# Altium footprint library 2019-05-27_23-32-10.PcbLib: 3 footprints
Each footprint in its own frame and in the unit in brackets; x right, y up, seen from the top. Pads: shape width x height; smd on the part's side, far side on the other; paste and mask are expansions set on the pad; w line width, h text height; cw(c..) or ccw(c..) is an arc to the next point about the centre after c.
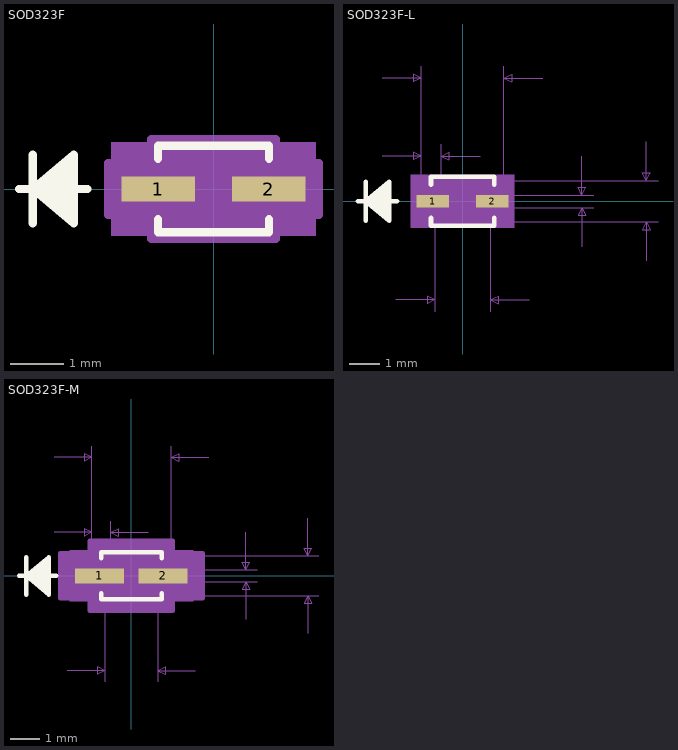
[diagram p0: the footprints below, top view; thin cyan lines are the x and y axes]

## SOD323F [mil]
pads (2):
  rect 53.5x18 smd paste+0 mask+0: 1(-40.25,0) 2(40.25,0)
Top Overlay:
  lines w6: -142,0 -92,0 ; -132,-25 -132,25 ; -102,-20 -132,0 ; -102,-15 -132,0 ; -102,-10 -132,0 ; -102,-5 -132,0 ; -102,5 -132,0 ; -102,10 -132,0 ; -102,15 -132,0 ; -102,20 -132,0 ; -40.5,-22.1 -40.5,-31.5 40.5,-31.5 40.5,-22.1 ; -40.5,22.1 -40.5,31.5 40.5,31.5 40.5,22.1 ; -132,0 -102,25 -102,-25 -132,0
Mechanical 5:
  region: 74.5,-34 -74.5,-34 -74.5,34 74.5,34
Mechanical 13:
  lines w1: -142,0 -92,0 ; -132,-25 -132,25 ; -102,-20 -132,0 ; -102,-15 -132,0 ; -102,-10 -132,0 ; -102,-5 -132,0 ; -102,5 -132,0 ; -102,10 -132,0 ; -102,15 -132,0 ; -102,20 -132,0 ; -35.5,-13.25 -22.25,-26.5 ; -35.5,13.25 -22.25,26.5 ; -132,0 -102,25 -102,-25 -132,0 ; -53,-8 -53,8 -35.5,8 -35.5,-8 -53,-8 ; -35.5,-26.5 35.5,-26.5 35.5,26.5 -35.5,26.5 -35.5,-26.5 ; 35.5,-8 35.5,8 53,8 53,-8 35.5,-8
Mechanical 15:
  region: -45.5,-19 -77,-19 -77,19 -45.5,19 -45.5,36.5 45.5,36.5 45.5,19 77,19 77,-19 45.5,-19 45.5,-36.5 -45.5,-36.5
  lines w6: -77,-19 -77,19 -45.5,19 -45.5,36.5 45.5,36.5 45.5,19 77,19 77,-19 45.5,-19 45.5,-36.5 -45.5,-36.5 -45.5,-19 -77,-19
3D body "SOD323F.step": height 43.11, standoff 0, extent -53,-26.5 52.99,26.49
3D body: height 10, standoff 0, extent 0,0 10,10

## SOD323F-L [mil]
pads (2):
  rect 41.5x16 smd paste+0 mask+0: 1(-38.25,0) 2(38.25,0)
Top Overlay:
  lines w6: -134,0 -84,0 ; -124,-25 -124,25 ; -94,-20 -124,0 ; -94,-15 -124,0 ; -94,-10 -124,0 ; -94,-5 -124,0 ; -94,5 -124,0 ; -94,10 -124,0 ; -94,15 -124,0 ; -94,20 -124,0 ; -40.5,-21.1 -40.5,-31.5 40.5,-31.5 40.5,-21.1 ; -40.5,21.1 -40.5,31.5 40.5,31.5 40.5,21.1 ; -124,0 -94,25 -94,-25 -124,0
Mechanical 5:
  region: 66.5,-34 -66.5,-34 -66.5,34 66.5,34
Mechanical 7:
  lines w1: -103,58 -53,58 ; -103,158 -53,158 ; -85.5,-126.5 -35.5,-126.5 ; -53,73 -53,0 -53,173 ; -35.5,-141.5 -35.5,0 ; -27.5,0 -27.5,73 ; 0,-26.5 250.5,-26.5 ; 0,26.5 250.5,26.5 ; 22.5,58 -27.5,58 ; 35.5,-141.5 35.5,0 ; 53,-8 168,-8 ; 53,0 53,173 ; 53,8 168,8 ; 85.5,-126.5 35.5,-126.5 ; 103,158 53,158 ; 153,-58 153,-8 ; 153,58 153,8 ; 235.5,-76.5 235.5,-26.5 ; 235.5,76.5 235.5,26.5 ; -53,58 -63,63 -63,53 -53,58 ; -53,158 -63,163 -63,153 -53,158 ; -35.5,-126.5 -45.5,-121.5 -45.5,-131.5 -35.5,-126.5 ; -27.5,58 -17.5,63 -17.5,53 -27.5,58 ; 35.5,-126.5 45.5,-121.5 45.5,-131.5 35.5,-126.5 ; 53,158 63,163 63,153 53,158 ; 153,-8 148,-18 158,-18 153,-8 ; 153,8 148,18 158,18 153,8 ; 235.5,-26.5 230.5,-36.5 240.5,-36.5 235.5,-26.5 ; 235.5,26.5 230.5,36.5 240.5,36.5 235.5,26.5
  text "Default Padstyle: RX41p5Y16D0T" at -375,-333 h50
  text "Alt 1 Padstyle: OX60Y90D30P" at -337.5,-408 h50
  text "Alt 2 Padstyle: OX90Y60D30P" at -337.5,-483 h50
  text "0.106in/2.692mm" at -93.75,178 h25
  text "0.018in/0.457mm" at -134,78 h25
  text "0.016in/0.406mm" at 173,-12.5 h25
  text "0.053in/1.346mm" at 255.5,-12.5 h25
  text "0.071in/1.803mm" at -93.75,-171.5 h25
Mechanical 13:
  lines w1: -134,0 -84,0 ; -124,-25 -124,25 ; -94,-20 -124,0 ; -94,-15 -124,0 ; -94,-10 -124,0 ; -94,-5 -124,0 ; -94,5 -124,0 ; -94,10 -124,0 ; -94,15 -124,0 ; -94,20 -124,0 ; -35.5,-13.25 -22.25,-26.5 ; -35.5,13.25 -22.25,26.5 ; -124,0 -94,25 -94,-25 -124,0 ; -53,-8 -53,8 -35.5,8 -35.5,-8 -53,-8 ; -35.5,-26.5 35.5,-26.5 35.5,26.5 -35.5,26.5 -35.5,-26.5 ; 35.5,-8 35.5,8 53,8 53,-8 35.5,-8
Mechanical 15:
  region: -39.5,-12 -63,-12 -63,12 -39.5,12 -39.5,30.5 39.5,30.5 39.5,12 63,12 63,-12 39.5,-12 39.5,-30.5 -39.5,-30.5
  lines w6: -63,-12 -63,12 -39.5,12 -39.5,30.5 39.5,30.5 39.5,12 63,12 63,-12 39.5,-12 39.5,-30.5 -39.5,-30.5 -39.5,-12 -63,-12
3D body: height 10, standoff 0, extent 0,0 10,10

## SOD323F-M [mil]
pads (2):
  rect 65.5x20 smd paste+0 mask+0: 1(-42.25,0) 2(42.25,0)
Top Overlay:
  lines w6: -150,0 -100,0 ; -140,-25 -140,25 ; -110,-20 -140,0 ; -110,-15 -140,0 ; -110,-10 -140,0 ; -110,-5 -140,0 ; -110,5 -140,0 ; -110,10 -140,0 ; -110,15 -140,0 ; -110,20 -140,0 ; -40.5,-23.1 -40.5,-31.5 40.5,-31.5 40.5,-23.1 ; -40.5,23.1 -40.5,31.5 40.5,31.5 40.5,23.1 ; -140,0 -110,25 -110,-25 -140,0
Mechanical 5:
  region: 82.5,-34 -82.5,-34 -82.5,34 82.5,34
Mechanical 7:
  lines w1: -103,58 -53,58 ; -103,158 -53,158 ; -85.5,-126.5 -35.5,-126.5 ; -53,73 -53,0 -53,173 ; -35.5,-141.5 -35.5,0 ; -27.5,0 -27.5,73 ; 0,-26.5 250.5,-26.5 ; 0,26.5 250.5,26.5 ; 22.5,58 -27.5,58 ; 35.5,-141.5 35.5,0 ; 53,-8 168,-8 ; 53,0 53,173 ; 53,8 168,8 ; 85.5,-126.5 35.5,-126.5 ; 103,158 53,158 ; 153,-58 153,-8 ; 153,58 153,8 ; 235.5,-76.5 235.5,-26.5 ; 235.5,76.5 235.5,26.5 ; -53,58 -63,63 -63,53 -53,58 ; -53,158 -63,163 -63,153 -53,158 ; -35.5,-126.5 -45.5,-121.5 -45.5,-131.5 -35.5,-126.5 ; -27.5,58 -17.5,63 -17.5,53 -27.5,58 ; 35.5,-126.5 45.5,-121.5 45.5,-131.5 35.5,-126.5 ; 53,158 63,163 63,153 53,158 ; 153,-8 148,-18 158,-18 153,-8 ; 153,8 148,18 158,18 153,8 ; 235.5,-26.5 230.5,-36.5 240.5,-36.5 235.5,-26.5 ; 235.5,26.5 230.5,36.5 240.5,36.5 235.5,26.5
  text "Default Padstyle: RX65p5Y20D0T" at -375,-335 h50
  text "Alt 1 Padstyle: OX60Y90D30P" at -337.5,-410 h50
  text "Alt 2 Padstyle: OX90Y60D30P" at -337.5,-485 h50
  text "0.106in/2.692mm" at -93.75,178 h25
  text "0.018in/0.457mm" at -134,78 h25
  text "0.016in/0.406mm" at 173,-12.5 h25
  text "0.053in/1.346mm" at 255.5,-12.5 h25
  text "0.071in/1.803mm" at -93.75,-171.5 h25
Mechanical 13:
  lines w1: -150,0 -100,0 ; -140,-25 -140,25 ; -110,-20 -140,0 ; -110,-15 -140,0 ; -110,-10 -140,0 ; -110,-5 -140,0 ; -110,5 -140,0 ; -110,10 -140,0 ; -110,15 -140,0 ; -110,20 -140,0 ; -35.5,-13.25 -22.25,-26.5 ; -35.5,13.25 -22.25,26.5 ; -140,0 -110,25 -110,-25 -140,0 ; -53,-8 -53,8 -35.5,8 -35.5,-8 -53,-8 ; -35.5,-26.5 35.5,-26.5 35.5,26.5 -35.5,26.5 -35.5,-26.5 ; 35.5,-8 35.5,8 53,8 53,-8 35.5,-8
Mechanical 15:
  region: -55.5,-30 -95,-30 -95,30 -55.5,30 -55.5,46.5 55.5,46.5 55.5,30 95,30 95,-30 55.5,-30 55.5,-46.5 -55.5,-46.5
  lines w6: -95,-30 -95,30 -55.5,30 -55.5,46.5 55.5,46.5 55.5,30 95,30 95,-30 55.5,-30 55.5,-46.5 -55.5,-46.5 -55.5,-30 -95,-30
3D body: height 10, standoff 0, extent 0,0 10,10